# EAGLE library part MM74HCT74 (library Fairchild_By_element14_Batch_1)
IC D-TYPE POS TRG DUAL
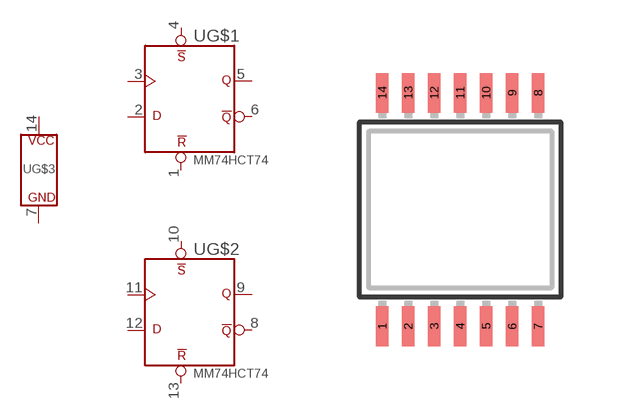
[diagram p386: symbol with the pads of TSSOP14; footprint TSSOP14]

Designator prefix U; gates G$1=D-FLOP G$2=D-FLOP G$3=SUPPLY

## MM74HCT74 (DIGIKEY: MM74HCT74MTCXCT-ND; P1I: o)  [TSSOP14]
1  G$1:!CLR
2  G$1:D
3  G$1:CLK
4  G$1:!PR
5  G$1:Q
6  G$1:!Q
7  G$3:GND
8  G$2:!Q
9  G$2:Q
10  G$2:!PR
11  G$2:CLK
12  G$2:D
13  G$2:!CLR
14  G$3:VCC

## Footprint TSSOP14 (pad centres in mm)
Thin Shrink Small Outline Plastic 14
smd 0.305 x 0.991: 1 -1.95,-2.918; 2 -1.3,-2.918; 3 -0.65,-2.918; 4 0,-2.918; 5 0.65,-2.918; 6 1.3,-2.918; 7 1.95,-2.918; 8 1.95,2.918; 9 1.3,2.918; 10 0.65,2.918; 11 0,2.918; 12 -0.65,2.918; 13 -1.3,2.918; 14 -1.95,2.918